# Altium schematic symbol library ATMEGA.SchLib: 1 symbol
Pins are listed as number, name and electrical type; pins without a type are passive.

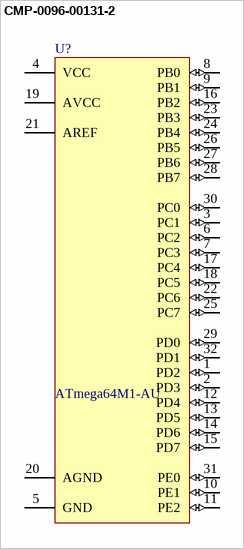
[diagram p0: symbol CMP-0096-00131-2]

## CMP-0096-00131-2
designator U?, comment ATmega64M1-AU
8-bit AVR Microcontroller, 2.7-5.5V, 16MHz, 64KB Flash, 2KB EEPROM, 4KB SRAM, Industrial Grade (-40° to +85°C), 32-Pin TQFP; Code_JEDEC: MS-026-ABA; PackageVersion: revC, Oct-2010; ComponentLink2Description: ATmega16M1/32M1/64M1 Datasheet; ComponentLink1Description: Manufacturer URL; DatasheetVersion: revD, Nov-2010; ComponentLink3Description: ATmega16M1/32M1/64M1 Summary; ComponentLink1URL: http://www.atmel.com/; RevisionNote: DatasheetVersion & PackageVersion updated. URLs added.; PackageReference: 32A; ComponentLink3URL: http://www.atmel.com/dyn/resources/prod_documents/8209S.pdf; PackageDescription: 32-Lead, 7x7x1.0 mm Body, 0.8mm Lead Pitch, Thin Profile Plastic Quad Flat Package (TQFP); ComponentLink2URL: http://www.atmel.com/dyn/resources/prod_documents/doc8209.pdf
footprint 32A_L (Thin QFP, 32-Leads, Body 7x7mm, Pitch 0.8mm, IPC High Density)
footprint 32A_M (Thin QFP, 32-Leads, Body 7x7mm, Pitch 0.8mm, IPC Low Density)
footprint 32A_N (Thin QFP, 32-Leads, Body 7x7mm, Pitch 0.8mm, IPC Medium Density)
pins: 1 PD2 (io), 2 PD3 (io), 3 PC1 (io), 4 VCC (power), 5 GND (power), 6 PC2 (io), 7 PC3 (io), 8 PB0 (io), 9 PB1 (io), 10 PE1 (io), 11 PE2 (io), 12 PD4 (io), 13 PD5 (io), 14 PD6 (io), 15 PD7 (io), 16 PB2 (io), 17 PC4 (io), 18 PC5 (io), 19 AVCC (power), 20 AGND (power), 21 AREF (power), 22 PC6 (io), 23 PB3 (io), 24 PB4 (io), 25 PC7 (io), 26 PB5 (io), 27 PB6 (io), 28 PB7 (io), 29 PD0 (io), 30 PC0 (io), 31 PE0 (io), 32 PD1 (io)